# EAGLE library part RESISTOR_ARRAY (library kmod-passives)
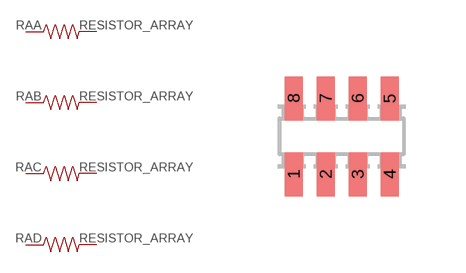
[diagram p0: symbol with the pads of 0603-ARV; footprint 0603-ARV]

Designator prefix RA; gates A=RESISTOR B=RESISTOR C=RESISTOR D=RESISTOR

## RESISTOR_ARRAY0603_X4 (PACKAGE: ARRAY)  [0603-ARV]
1  A:1  pas
2  B:1  pas
3  C:1  pas
4  D:1  pas
5  D:2  pas
6  C:2  pas
7  B:2  pas
8  A:2  pas

## Footprint 0603-ARV (pad centres in mm)
Chip Resistor Array size 4 × 0603 Originally from SparkFun libraries Modified according to this doc <http://www.ctscorp.com/components/datasheets/ctschiparrayds.pdf>; not exactly the parts I use but the modifications (longer [0.65->0.9mm], thinner pads) make sense given my limited experience with them. Actually, at this point they're exactly what yageo recommends http://www.yageo.com/exep/pages/download/literatures/PYu-R_Mount_5.pdf Lengthened pads again [0.9->1.1mm]. Apparently this footprint is good for both convex and concave arrays. Verified this against a concave footprint from another manufacturer (742 series). The also say that the footprint is the same for convex and concave. http://media.digikey.com/pdf/Data%20Sheets/CTS%20Corporation%20PDFs/Chip%20Resistor%20Arrays_74x_Series.pdf
smd 0.45 x 1.1: 1 -1.2,-0.95; 2 -0.4,-0.95; 3 0.4,-0.95; 4 1.2,-0.95; 5 1.2,0.95; 6 0.4,0.95; 7 -0.4,0.95; 8 -1.2,0.95